# Altium footprint library PCB - LED - LED 0603_1608 YELLOW.PCBLIB: 1 footprints
Each footprint in its own frame and in the unit in brackets; x right, y up, seen from the top. Pads: shape width x height; smd on the part's side, far side on the other; paste and mask are expansions set on the pad; w line width, h text height; cw(c..) or ccw(c..) is an arc to the next point about the centre after c.
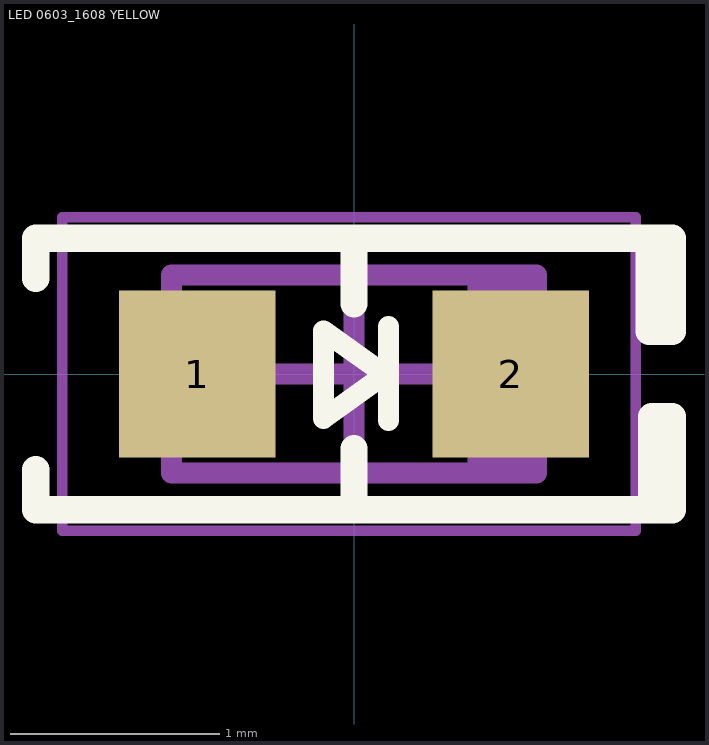
[diagram p0: the footprint, top view; thin cyan lines are the x and y axes]

## LED 0603_1608 YELLOW [mm] "Chip Diode, 2-Leads, Body 1.60x0.80mm, IPC Medium Density"
height 0.45
pads (2):
  rect 0.75x0.8 smd: 1(-0.75,0) 2(0.75,0)
Top Overlay:
  lines w0.1: 0.166,-0.223 0.166,0.002 0.166,0.227 ; -0.146,-0.214 0.148,-0.003 -0.146,0.207 -0.146,-0.029 -0.146,-0.214
  lines w0.13: -1.524,-0.458 -1.524,-0.65 1.5,-0.65 ; -1.524,0.458 -1.524,0.65 1.5,0.65 ; 0,-0.65 0,-0.357 ; 0,0.337 0,0.65 ; 1.412,0.204 1.412,0.65 1.524,0.65 1.524,0.204 1.412,0.204 ; 1.425,-0.65 1.425,-0.204 1.524,-0.204 1.524,-0.65 1.425,-0.65
Top Assembly:
  rectangle: 0.545,-0.468 0.875,0.475
  lines w0.1: -0.875,-0.475 0.875,-0.475 0.875,0.475 -0.875,0.475 -0.875,-0.475
  text ".Designator" at 1.018,-0.253 h1
Top Component Center:
  lines w0.1: -0.475,0 0.475,0 ; 0,-0.475 0,0.475
Top Courtyard:
  lines w0.05: -1.397,-0.75 1.35,-0.75 1.35,0.75 -1.397,0.75 -1.397,-0.75
3D body "LED 0603 Base YELLOW.STEP": height 0.28, standoff 0, extent -0.8,-0.4 0.8,0.4
3D body "LED 0603 Lens YELLOW.STEP": height 0.53, standoff 0.18, extent -0.55,-0.4 0.55,0.4